# EAGLE library part X9258TS24IZ-2.7 (library potWithPosNeg5)
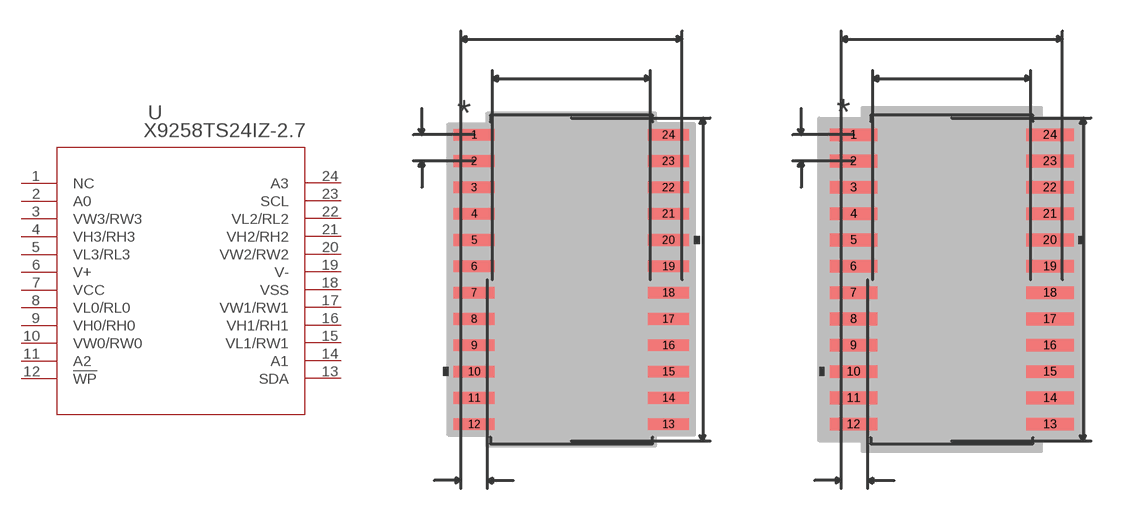
[diagram p0: symbol with the pads of SOIC24_7P60X15P60; footprints SOIC24_7P60X15P60, SOIC24_7P60X15P60-M]

Designator prefix U

## X9258TS24IZ-2.7 (MANUFACTURER_PART_NUMBER: X9258TS24IZ2.7; VENDOR: Intersil)  [SOIC24_7P60X15P60]
1  NC  nc
2  A0  pas
3  VW3/RW3  pas
4  VH3/RH3  pas
5  VL3/RL3  pas
6  V+  pwr
7  VCC  pwr
8  VL0/RL0  pas
9  VH0/RH0  pas
10  VW0/RW0  pas
11  A2  pas
12  !WP  pas
13  SDA  pas
14  A1  pas
15  VL1/RW1  pas
16  VH1/RH1  pas
17  VW1/RW1  pas
18  VSS  pwr
19  V-  pwr
20  VW2/RW2  pas
21  VH2/RH2  pas
22  VL2/RL2  pas
23  SCL  pas
24  A3  pas

## X9258TS24IZ-2.7SOIC24_7P60X15P60-M (MANUFACTURER_PART_NUMBER: X9258TS24IZ2.7; VENDOR: Intersil)  [SOIC24_7P60X15P60-M]
Pads as for SOIC24_7P60X15P60

## X9258TS24IZ-2.7SOIC24_7P60X15P60-L (MANUFACTURER_PART_NUMBER: X9258TS24IZ2.7; VENDOR: Intersil)  [SOIC24_7P60X15P60-L]
Pads as for SOIC24_7P60X15P60

## Footprint SOIC24_7P60X15P60 (pad centres in mm)
smd 1.981 x 0.559: 1 -4.686,6.985; 2 -4.686,5.715; 3 -4.686,4.445; 4 -4.686,3.175; 5 -4.686,1.905; 6 -4.686,0.635; 7 -4.686,-0.635; 8 -4.686,-1.905; 9 -4.686,-3.175; 10 -4.686,-4.445; 11 -4.686,-5.715; 12 -4.686,-6.985; 13 4.686,-6.985; 14 4.686,-5.715; 15 4.686,-4.445; 16 4.686,-3.175; 17 4.686,-1.905; 18 4.686,-0.635; 19 4.686,0.635; 20 4.686,1.905; 21 4.686,3.175; 22 4.686,4.445; 23 4.686,5.715; 24 4.686,6.985

## Footprint SOIC24_7P60X15P60-M (pad centres in mm)
smd 2.286 x 0.61: 1 -4.737,6.985; 2 -4.737,5.715; 3 -4.737,4.445; 4 -4.737,3.175; 5 -4.737,1.905; 6 -4.737,0.635; 7 -4.737,-0.635; 8 -4.737,-1.905; 9 -4.737,-3.175; 10 -4.737,-4.445; 11 -4.737,-5.715; 12 -4.737,-6.985; 13 4.737,-6.985; 14 4.737,-5.715; 15 4.737,-4.445; 16 4.737,-3.175; 17 4.737,-1.905; 18 4.737,-0.635; 19 4.737,0.635; 20 4.737,1.905; 21 4.737,3.175; 22 4.737,4.445; 23 4.737,5.715; 24 4.737,6.985

## Footprint SOIC24_7P60X15P60-L (pad centres in mm)
smd 1.676 x 0.508: 1 -4.636,6.985; 2 -4.636,5.715; 3 -4.636,4.445; 4 -4.636,3.175; 5 -4.636,1.905; 6 -4.636,0.635; 7 -4.636,-0.635; 8 -4.636,-1.905; 9 -4.636,-3.175; 10 -4.636,-4.445; 11 -4.636,-5.715; 12 -4.636,-6.985; 13 4.636,-6.985; 14 4.636,-5.715; 15 4.636,-4.445; 16 4.636,-3.175; 17 4.636,-1.905; 18 4.636,-0.635; 19 4.636,0.635; 20 4.636,1.905; 21 4.636,3.175; 22 4.636,4.445; 23 4.636,5.715; 24 4.636,6.985